# Altium footprint library QFN-28_5x5x05P.PcbLib: 1 footprints
Each footprint in its own frame and in the unit in brackets; x right, y up, seen from the top. Pads: shape width x height; smd on the part's side, far side on the other; paste and mask are expansions set on the pad; w line width, h text height; cw(c..) or ccw(c..) is an arc to the next point about the centre after c.
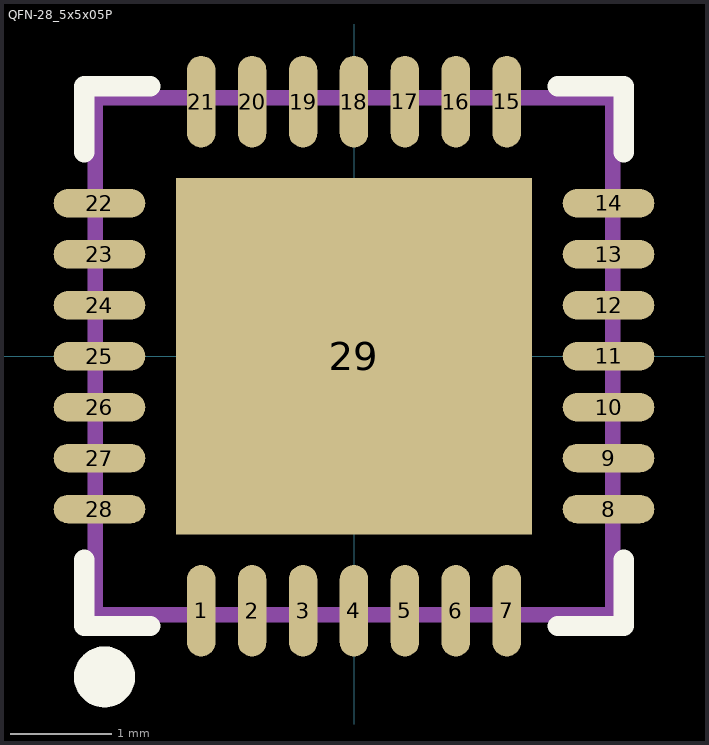
[diagram p0: the footprint, top view; thin cyan lines are the x and y axes]

## QFN-28_5x5x05P [mm]
pads (29):
  oval 0.28x0.9 smd: 1(-1.501,-2.5) 2(-1.001,-2.5) 3(-0.501,-2.5) 4(0,-2.5) 5(0.5,-2.5) 6(1.001,-2.5) 7(1.501,-2.5) 15(1.501,2.5) 16(1.001,2.5) 17(0.5,2.5) 18(0,2.5) 19(-0.501,2.5) 20(-1.001,2.5) 21(-1.501,2.5)
  oval 0.9x0.28 smd: 8(2.5,-1.501) 9(2.5,-1.001) 10(2.5,-0.5) 11(2.5,0) 12(2.5,0.5) 13(2.5,1.001) 14(2.5,1.501) 22(-2.5,1.501) 23(-2.5,1.001) 24(-2.5,0.5) 25(-2.5,0) 26(-2.5,-0.5) 27(-2.5,-1.001) 28(-2.5,-1.501)
  rect 3.5x3.5 smd: 29(0,0)
Top Overlay:
  lines w0.2: -2.65,-2 -2.65,-2.65 -2,-2.65 ; -2.65,2 -2.65,2.65 -2,2.65 ; 2,-2.65 2.65,-2.65 2.65,-2 ; 2,2.65 2.65,2.65 2.65,2
  lines w0.3: -2.451,-3 ccw(c-2.45,-3.15) -2.449,-3
Top Designator:
  text ".Designator" at -7.618,-0.406 h1.52
Top Courtyard:
  lines w0.152: -2.54,-2.54 -2.54,2.54 2.54,2.54 2.54,-2.54 -2.54,-2.54
Top Component Center:
  lines w0.1: -0.353,0 0.353,0 ; 0,-0.353 0,0.353
3D body "User Library-QFN28-0_5.STEP": height 1, standoff 0, extent -2.5,-2.5 2.5,2.5